# EAGLE library part SAM4C32C-100 (library OBD-Interface)
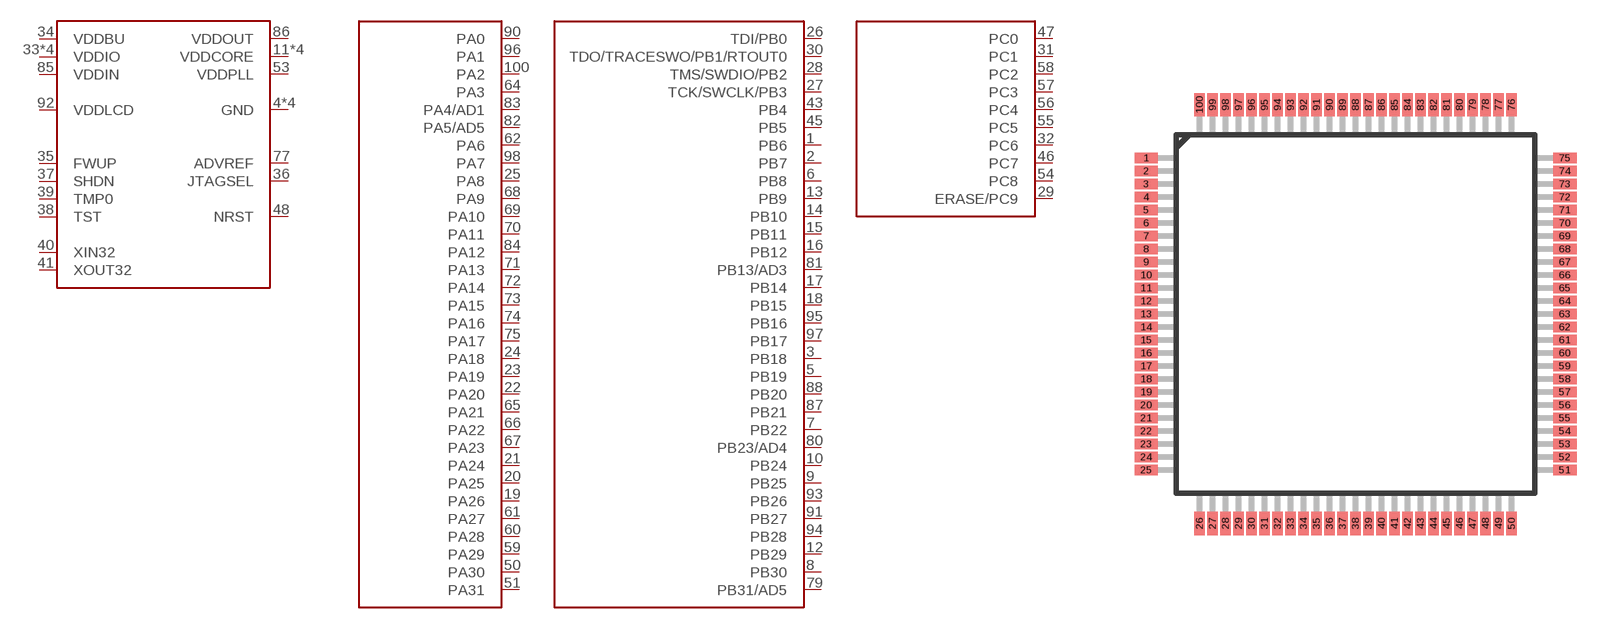
[diagram p0: symbol with the pads of LQFP-100; footprint LQFP-100]

Designator prefix -; gates G$1=SAM4C-100-POWER G$2=SAM4C-100-PIOA G$3=SAM4C-100-PIOB G$4=SAM4C-100-PIOC

## SAM4C32C-100  [LQFP-100]
1  G$3:PB6
2  G$3:PB7
3  G$3:PB18
4  G$1:GND  pwr
5  G$3:PB19
6  G$3:PB8
7  G$3:PB22
8  G$3:PB30
9  G$3:PB25
10  G$3:PB24
11  G$1:VDDCORE  pwr
12  G$3:PB29
13  G$3:PB9
14  G$3:PB10
15  G$3:PB11
16  G$3:PB12
17  G$3:PB14
18  G$3:PB15
19  G$2:PA26
20  G$2:PA25
21  G$2:PA24
22  G$2:PA20
23  G$2:PA19
24  G$2:PA18
25  G$2:PA8
26  G$3:TDI/PB0
27  G$3:TCK/SWCLK/PB3
28  G$3:TMS/SWDIO/PB2
29  G$4:ERASE/PC9
30  G$3:TDO/TRACESWO/PB1/RTOUT0
31  G$4:PC1
32  G$4:PC6
33  G$1:VDDIO  pwr
34  G$1:VDDBU  pwr
35  G$1:FWUP
36  G$1:JTAGSEL
37  G$1:SHDN
38  G$1:TST
39  G$1:TMP0
40  G$1:XIN32
41  G$1:XOUT32
42  G$1:GND  pwr
43  G$3:PB4
44  G$1:VDDCORE  pwr
45  G$3:PB5
46  G$4:PC7
47  G$4:PC0
48  G$1:NRST
49  G$1:VDDIO  pwr
50  G$2:PA30
51  G$2:PA31
52  G$1:GND  pwr
53  G$1:VDDPLL  pwr
54  G$4:PC8
55  G$4:PC5
56  G$4:PC4
57  G$4:PC3
58  G$4:PC2
59  G$2:PA29
60  G$2:PA28
61  G$2:PA27
62  G$2:PA6
63  G$1:VDDCORE  pwr
64  G$2:PA3
65  G$2:PA21
66  G$2:PA22
67  G$2:PA23
68  G$2:PA9
69  G$2:PA10
70  G$2:PA11
71  G$2:PA13
72  G$2:PA14
73  G$2:PA15
74  G$2:PA16
75  G$2:PA17
76  G$1:VDDIO  pwr
77  G$1:ADVREF
78  G$1:GND  pwr
79  G$3:PB31/AD5
80  G$3:PB23/AD4
81  G$3:PB13/AD3
82  G$2:PA5/AD5
83  G$2:PA4/AD1
84  G$2:PA12
85  G$1:VDDIN  pwr
86  G$1:VDDOUT  pwr
87  G$3:PB21
88  G$3:PB20
89  G$1:VDDCORE  pwr
90  G$2:PA0
91  G$3:PB27
92  G$1:VDDLCD  pwr
93  G$3:PB26
94  G$3:PB28
95  G$3:PB16
96  G$2:PA1
97  G$3:PB17
98  G$2:PA7
99  G$1:VDDIO  pwr
100  G$2:PA2

## Footprint LQFP-100 (pad centres in mm)
LQFP-100 Auto generated by make-symbol-device-package-bsdl.ulp Rev. 44
smd 0.9 x 0.4: 1 -8.05,6; 2 -8.05,5.5; 3 -8.05,5; 4 -8.05,4.5; 5 -8.05,4; 6 -8.05,3.5; 7 -8.05,3; 8 -8.05,2.5; 9 -8.05,2; 10 -8.05,1.5; 11 -8.05,1; 12 -8.05,0.5; 13 -8.05,0; 14 -8.05,-0.5; 15 -8.05,-1; 16 -8.05,-1.5; 17 -8.05,-2; 18 -8.05,-2.5; 19 -8.05,-3; 20 -8.05,-3.5; 21 -8.05,-4; 22 -8.05,-4.5; 23 -8.05,-5; 24 -8.05,-5.5; 25 -8.05,-6; 51 8.05,-6; 52 8.05,-5.5; 53 8.05,-5; 54 8.05,-4.5; 55 8.05,-4; 56 8.05,-3.5; 57 8.05,-3; 58 8.05,-2.5; 59 8.05,-2; 60 8.05,-1.5; 61 8.05,-1; 62 8.05,-0.5; 63 8.05,0; 64 8.05,0.5; 65 8.05,1; 66 8.05,1.5; 67 8.05,2; 68 8.05,2.5; 69 8.05,3; 70 8.05,3.5; 71 8.05,4; 72 8.05,4.5; 73 8.05,5; 74 8.05,5.5; 75 8.05,6
smd 0.4 x 0.9: 26 -6,-8.05; 27 -5.5,-8.05; 28 -5,-8.05; 29 -4.5,-8.05; 30 -4,-8.05; 31 -3.5,-8.05; 32 -3,-8.05; 33 -2.5,-8.05; 34 -2,-8.05; 35 -1.5,-8.05; 36 -1,-8.05; 37 -0.5,-8.05; 38 0,-8.05; 39 0.5,-8.05; 40 1,-8.05; 41 1.5,-8.05; 42 2,-8.05; 43 2.5,-8.05; 44 3,-8.05; 45 3.5,-8.05; 46 4,-8.05; 47 4.5,-8.05; 48 5,-8.05; 49 5.5,-8.05; 50 6,-8.05; 76 6,8.05; 77 5.5,8.05; 78 5,8.05; 79 4.5,8.05; 80 4,8.05; 81 3.5,8.05; 82 3,8.05; 83 2.5,8.05; 84 2,8.05; 85 1.5,8.05; 86 1,8.05; 87 0.5,8.05; 88 0,8.05; 89 -0.5,8.05; 90 -1,8.05; 91 -1.5,8.05; 92 -2,8.05; 93 -2.5,8.05; 94 -3,8.05; 95 -3.5,8.05; 96 -4,8.05; 97 -4.5,8.05; 98 -5,8.05; 99 -5.5,8.05; 100 -6,8.05